# Altium footprint library LED_RED.PcbLib: 1 footprints
Each footprint in its own frame and in the unit in brackets; x right, y up, seen from the top. Pads: shape width x height; smd on the part's side, far side on the other; paste and mask are expansions set on the pad; w line width, h text height; cw(c..) or ccw(c..) is an arc to the next point about the centre after c.
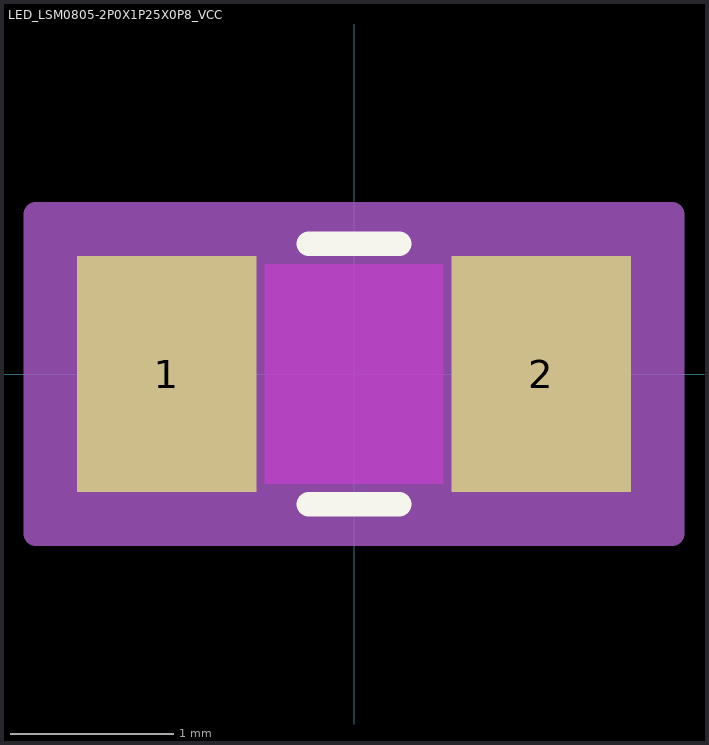
[diagram p0: the footprint, top view; thin cyan lines are the x and y axes]

## LED_LSM0805-2P0X1P25X0P8_VCC [mm]
pads (2):
  rect 1.1x1.45 smd paste+0 mask+0: 1(-1.15,0) 2(1.15,0)
Top Layer keep-out:
  region: -0.549,-0.674 -0.549,0.674 0.549,0.674 0.549,-0.674
Top Overlay:
  lines w0.152: -0.276,-0.8 0.276,-0.8 ; -0.276,0.8 0.276,0.8
Mechanical 13:
  lines w0.025: -1.054,-0.673 -1.054,0.673 1.054,0.673 1.054,-0.673 -1.054,-0.673
Mechanical 15:
  region: -1.308,-0.979 -1.954,-0.979 -1.954,0.979 -1.308,0.979 1.308,0.979 1.954,0.979 1.954,-0.979 1.308,-0.979
  lines w0.152: -1.954,-0.979 -1.308,-0.979 1.308,-0.979 1.954,-0.979 1.954,0.979 1.308,0.979 -1.308,0.979 -1.954,0.979 -1.954,-0.979
3D body "LED_LSM0805-2P0X1P25X0P8_VCC.step": height 0.89, standoff 0, extent -1.054,-0.676 1.054,0.676